# Altium integrated library RC0201JR-0727RL.IntLib: 1 symbol
Pins are listed as number, name and electrical type; pins without a type are passive.

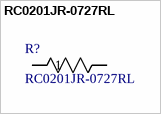
[diagram p0: symbol RC0201JR-0727RL]

## RC0201JR-0727RL
designator R?
No Description Available; Manufacturer_Name: Yageo; Copyright: Copyright (C) 2026 Ultra Librarian. All rights reserved.; Manufacturer_Part_Number: RC0201JR-0727RL
footprint RES_RC0201_P6XP3_YAG
pins: 1, 2